# Altium schematic symbol library WS-PBTV.SchLib: 1 symbol
Pins are listed as number, name and electrical type; pins without a type are passive.

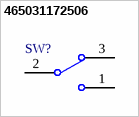
[diagram p0: symbol 465031172506]

## 465031172506
designator SW?  (value not drawn)
WS-PBTV THT Push Button Switch Vertical 9.8 x 5.8 mm, SPDT, ON-(ON), auto-return; Manufacturer: Wurth Elektronik; Manufacturer Part Number: 465031172506; Category: Push Button Switch; Match Code: WS-PBTV; ComponentLink1Description: Website Link; ComponentLink1URL: https://www.we-online.com; ComponentLink2Description: Datasheet Link; ComponentLink2URL: https://www.we-online.com/components/products/datasheet/465031172506; Mount: Through Hole; Operating Temperature Min: -40degC; Operating Temperature Max: 85degC; Packaging: Tray; Length: 10.16mm; Width: 5.8mm; Height: 18.5mm; Actuation Function: auto-return; Schematic: SPDT; Switching Function: ON-(ON)
footprint 465031172506
pins: 1, 2 COM, 3